# Altium footprint library BeagleBone.PcbLib: 1 footprints
Each footprint in its own frame and in the unit in brackets; x right, y up, seen from the top. Pads: shape width x height; smd on the part's side, far side on the other; paste and mask are expansions set on the pad; w line width, h text height; cw(c..) or ccw(c..) is an arc to the next point about the centre after c.
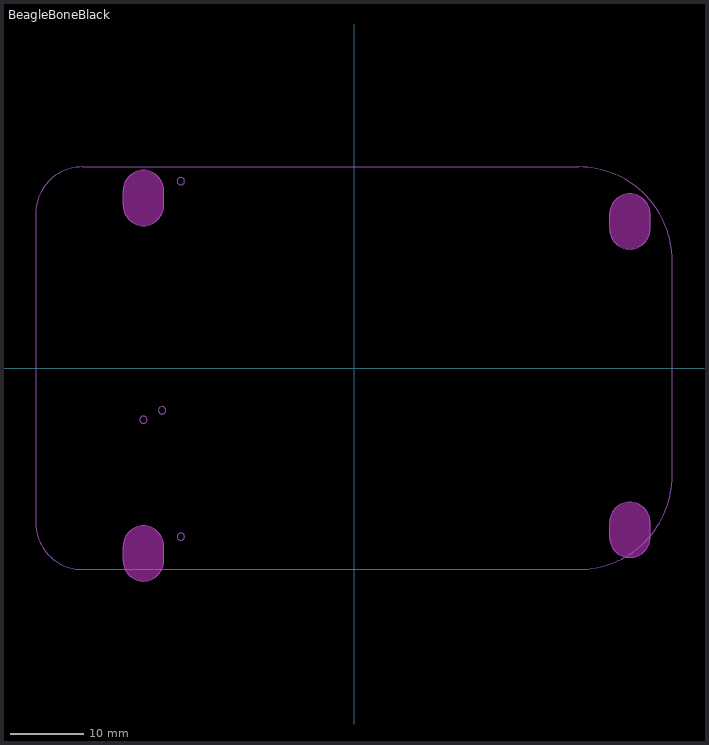
[diagram p0: the footprint, top view; thin cyan lines are the x and y axes]

## BeagleBoneBlack [mm]
Keep-Out Layer:
  drawing of 4 lines, arcs and shapes, not listed
Top Assembly:
  circle w0.1: c-23.51,-22.85 r0.5
  circle w0.1: c-26.05,-5.7 r0.5
  circle w0.1: c-28.59,-6.97 r0.5
  circle w0.1: c-23.51,25.41 r0.5
  lines w0.1: -43.2,-21 ccw(c-36.9,-21) -36.9,-27.3 30.5,-27.3 ccw(c30.5,-14.6) 43.2,-14.6 43.2,14.65 ccw(c30.5,14.65) 30.5,27.35 -36.9,27.35 ccw(c-36.9,21.05) -43.2,21.05 -43.2,-21 ; -31.34,-26.13 ccw(c-28.59,-26.13) -25.84,-26.13 -25.84,-24.13 ccw(c-28.59,-24.13) -31.34,-24.13 -31.34,-26.13 ; -31.34,22.13 ccw(c-28.59,22.13) -25.84,22.13 -25.84,24.13 ccw(c-28.59,24.13) -31.34,24.13 -31.34,22.13 ; 34.7,-22.925 ccw(c37.45,-22.925) 40.2,-22.925 40.2,-20.925 ccw(c37.45,-20.925) 34.7,-20.925 34.7,-22.925 ; 34.7,18.95 ccw(c37.45,18.95) 40.2,18.95 40.2,20.95 ccw(c37.45,20.95) 34.7,20.95 34.7,18.95
  text "P8" at -21.95,-23.4 h1
  text "2" at -25.125,-6.2 h1
  text "1" at -27.675,-7.475 h1
  text "P9" at -22.225,24.925 h1
3D body "BEAGLEBONE_BLACK.STEP": height 14.03, standoff -1.46, extent -43.74,-27.31 43.849,27.35